# Altium schematic symbol library TRANS-PNP-CEB.SCHLIB: 1 symbol
Pins are listed as number, name and electrical type; pins without a type are passive.

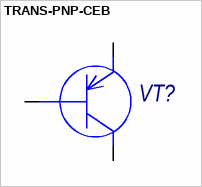
[diagram p0: symbol TRANS-PNP-CEB]

## TRANS-PNP-CEB
designator VT?
pins: 1 C, 2 E, 3 B